# EAGLE library part 74244-? (library ic-74)
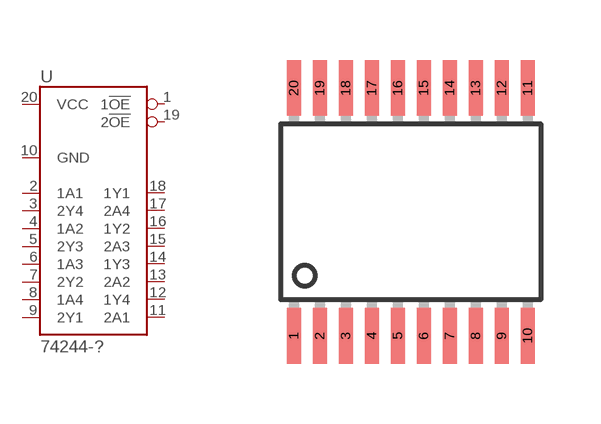
[diagram p8: symbol with the pads of TSSOP20; footprint TSSOP20]

Designator prefix U

## 74244-TSSOP  [TSSOP20]
1  1!OE
2  1A1
3  2Y4
4  1A2
5  2Y3
6  1A3
7  2Y2
8  1A4
9  2Y1
10  GND
11  2A1
12  1Y4
13  2A2
14  1Y3
15  2A3
16  1Y2
17  2A4
18  1Y1
19  2!OE
20  VCC

## Footprint TSSOP20 (pad centres in mm)
smd 0.35 x 1.4: 1 -2.925,-3.1; 2 -2.275,-3.1; 3 -1.625,-3.1; 4 -0.975,-3.1; 5 -0.325,-3.1; 6 0.325,-3.1; 7 0.975,-3.1; 8 1.625,-3.1; 9 2.275,-3.1; 10 2.925,-3.1; 11 2.925,3.1; 12 2.275,3.1; 13 1.625,3.1; 14 0.975,3.1; 15 0.325,3.1; 16 -0.325,3.1; 17 -0.975,3.1; 18 -1.625,3.1; 19 -2.275,3.1; 20 -2.925,3.1